# EAGLE library part 2.4-TFT-TOUCH (library STMBerry)
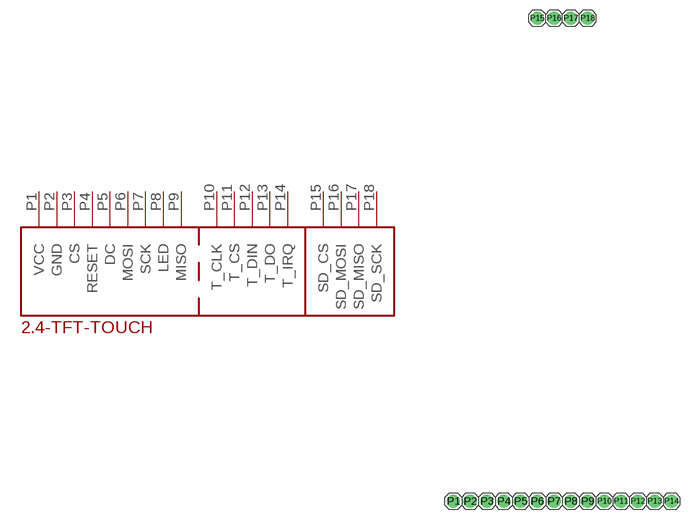
[diagram p6: symbol with the pads of 2.4-TFT-TOUCH; footprint 2.4-TFT-TOUCH]

Designator prefix -

## 2.4-TFT-TOUCH  [2.4-TFT-TOUCH]
P1  VCC
P2  GND
P3  CS
P4  RESET
P5  DC
P6  MOSI
P7  SCK
P8  LED
P9  MISO
P10  T_CLK
P11  T_CS
P12  T_DIN
P13  T_DO
P14  T_IRQ
P15  SD_CS
P16  SD_MOSI
P17  SD_MISO
P18  SD_SCK

## Footprint 2.4-TFT-TOUCH (pad centres in mm)
drill 1 pad 2: P1 -33.02,0; P2 -30.48,0; P3 -27.94,0; P4 -25.4,0; P5 -22.86,0; P6 -20.32,0; P7 -17.78,0; P8 -15.24,0; P9 -12.7,0; P10 -10.16,0; P11 -7.62,0; P12 -5.08,0; P13 -2.54,0; P14 0,0; P15 -20.32,73.18; P16 -17.78,73.18; P17 -15.24,73.18; P18 -12.7,73.18